# Altium footprint library Photodiodes.PcbLib: 6 footprints
Each footprint in its own frame and in the unit in brackets; x right, y up, seen from the top. Pads: shape width x height; smd on the part's side, far side on the other; paste and mask are expansions set on the pad; w line width, h text height; cw(c..) or ccw(c..) is an arc to the next point about the centre after c.
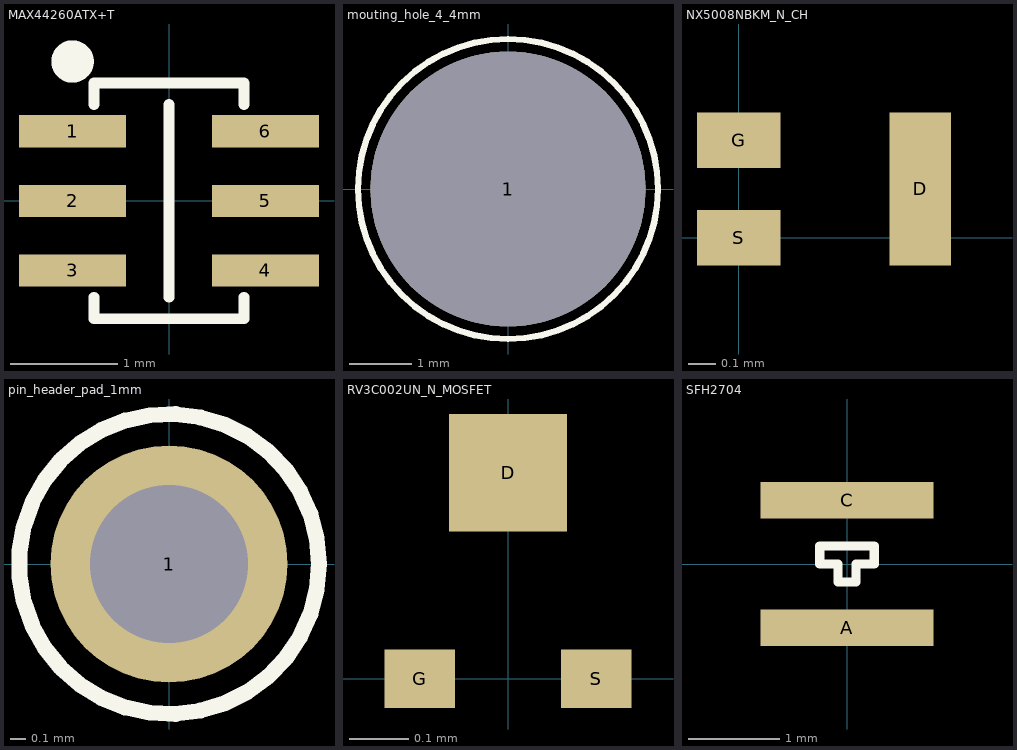
[diagram p0: the footprints below, top view; thin cyan lines are the x and y axes]

## MAX44260ATX+T [mm] "SC70-6"
height 2
pads (6):
  rrect0% 1x0.3 smd mask+0.07: 1(-0.9,0.65) 2(-0.9,0) 3(-0.9,-0.65) 4(0.9,-0.65) 5(0.9,0) 6(0.9,0.65)
Top Overlay:
  circle w0.254: c-0.9,1.3 r0.071
  lines w0.1: -0.7,-0.9 -0.7,-1.1 0.7,-1.1 0.7,-0.9 ; -0.7,0.9 -0.7,1.1 0,1.1 0.7,1.1 0.7,0.9 ; 0,-0.9 0,0.9
3D body "SOT-363_SC-70-6.step": height 1.05, standoff 0, extent -1,-1 1,1

## mouting_hole_4_4mm [mm]
pads (1):
  round 4.4 hole 4.4 paste+0: 1(0,0)
Top Overlay:
  circle w0.1: c0,0 r2.4

## NX5008NBKM_N_CH [mm] "50 V, N-channel Trench MOSFET, SOT883, DFN1060 Package"
pads (3):
  rect 0.22x0.55 smd: D(0.65,0.175)
  rect 0.3x0.2 smd: G(0,0.35) S(0,0)
3D body: height 0.48, standoff 0, extent -0.2,-0.125 0.8,0.475

## pin_header_pad_1mm [mm]
pads (1):
  round 1.5 hole 1: 1(0,0)
Top Overlay:
  circle w0.1: c0,0 r0.949

## RV3C002UN_N_MOSFET [mm] "Nch 20V 150mA Small Signal MOSFET"
pads (3):
  rect 0.2x0.2 smd: D(0,0.35)
  rect 0.12x0.1 smd: G(-0.15,0) S(0.15,0)
3D body: height 0.4, standoff 0, extent -0.2,-0.05 0.2,0.55
3D body: height 0.4, standoff 0, extent -0.31,-0.15 -0.31,-0.15
3D body: height 0.4, standoff 0, extent -0.31,0.55 -0.31,0.55
3D body: height 0.4, standoff 0, extent 0,0.13 0,0.13

## SFH2704 [mm]
pads (2):
  rect 1.9x0.4 smd: A(0,-0.7) C(0,0.7)
Top Overlay:
  lines w0.1: -0.3,0 -0.1,0 -0.1,-0.2 0.1,-0.2 0.1,0 0.3,0 0.3,0.2 -0.2,0.2 -0.3,0.2 -0.3,0
3D body "SFH_2704_20190402_geometry.STEP": height 0.6, standoff 0, extent -1,-0.9 1,0.9